# Altium footprint library Components.PcbLib: 17 footprints (part 2 of 2)
Each footprint in its own frame and in the unit in brackets; x right, y up, seen from the top. Pads: shape width x height; smd on the part's side, far side on the other; paste and mask are expansions set on the pad; w line width, h text height; cw(c..) or ccw(c..) is an arc to the next point about the centre after c.
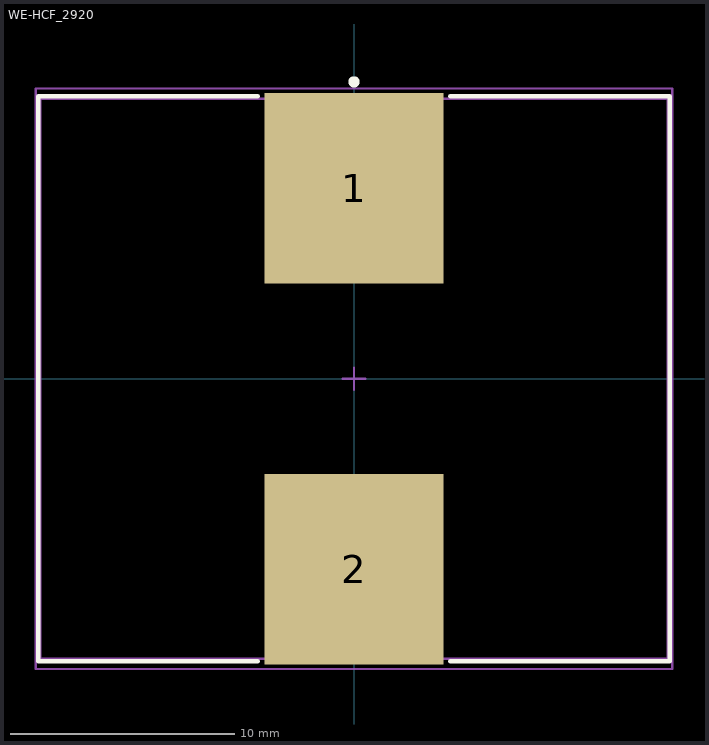
[diagram p1: the footprint, top view; thin cyan lines are the x and y axes]

## WE-HCF_2920 [mm] "SMD High Current Inductor, body 28x25mm"
height 20.5
pads (2):
  rect 8x8.5 smd: 1(0,8.5) 2(0,-8.5)
Top Overlay:
  circle w0.25: c0,13.25 r0.125
  lines w0.2: -4.3,-12.6 -14.1,-12.6 -14.1,12.6 -4.3,12.6 ; 4.3,-12.6 14.1,-12.6 14.1,12.6 4.3,12.6
Top 3D Body:
  lines w0.1: -14,-12.5 -14,12.5 14,12.5 14,-12.5 -14,-12.5
Top Courtyard:
  lines w0.1: -14.2,-12.95 -14.2,12.95 14.2,12.95 14.2,-12.95 -14.2,-12.95
Top Assembly:
  circle w0.1: c0,10.5 r1
  lines w0.1: -14,-12.5 14,-12.5 14,12.5 -14,12.5 -14,-12.5
Top Designator:
  text ".Designator" at -3.647,-0.357 h1
Top Component Center:
  lines w0.1: -0.5,0 0.5,0 ; 0,-0.5 0,0.5
3D body "74437429203xxx.stp": height 20, standoff 0, extent -13.65,-11.548 13.65,11.548